# EAGLE library part ADR3425 (library FM_transmitter)
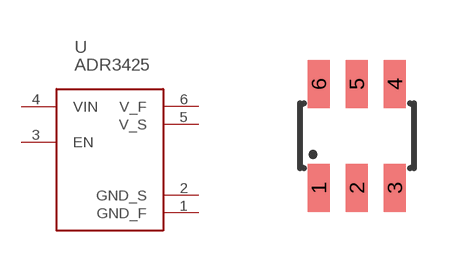
[diagram p11: symbol with the pads of SOT23-6; footprint SOT23-6]

Designator prefix -

## ADR3425  [SOT23-6]
1  GND_F
2  GND_S
3  EN
4  VIN
5  V_S
6  V_F

## Footprint SOT23-6 (pad centres in mm)
smd 0.55 x 1.2: 1 -0.95,-1.3; 2 0,-1.3; 3 0.95,-1.3; 4 0.95,1.3; 5 0,1.3; 6 -0.95,1.3